# Altium schematic symbol library Analog_DAC.SchLib: 132 symbols (part 1 of 2)
Pins are listed as number, name and electrical type; pins without a type are passive.

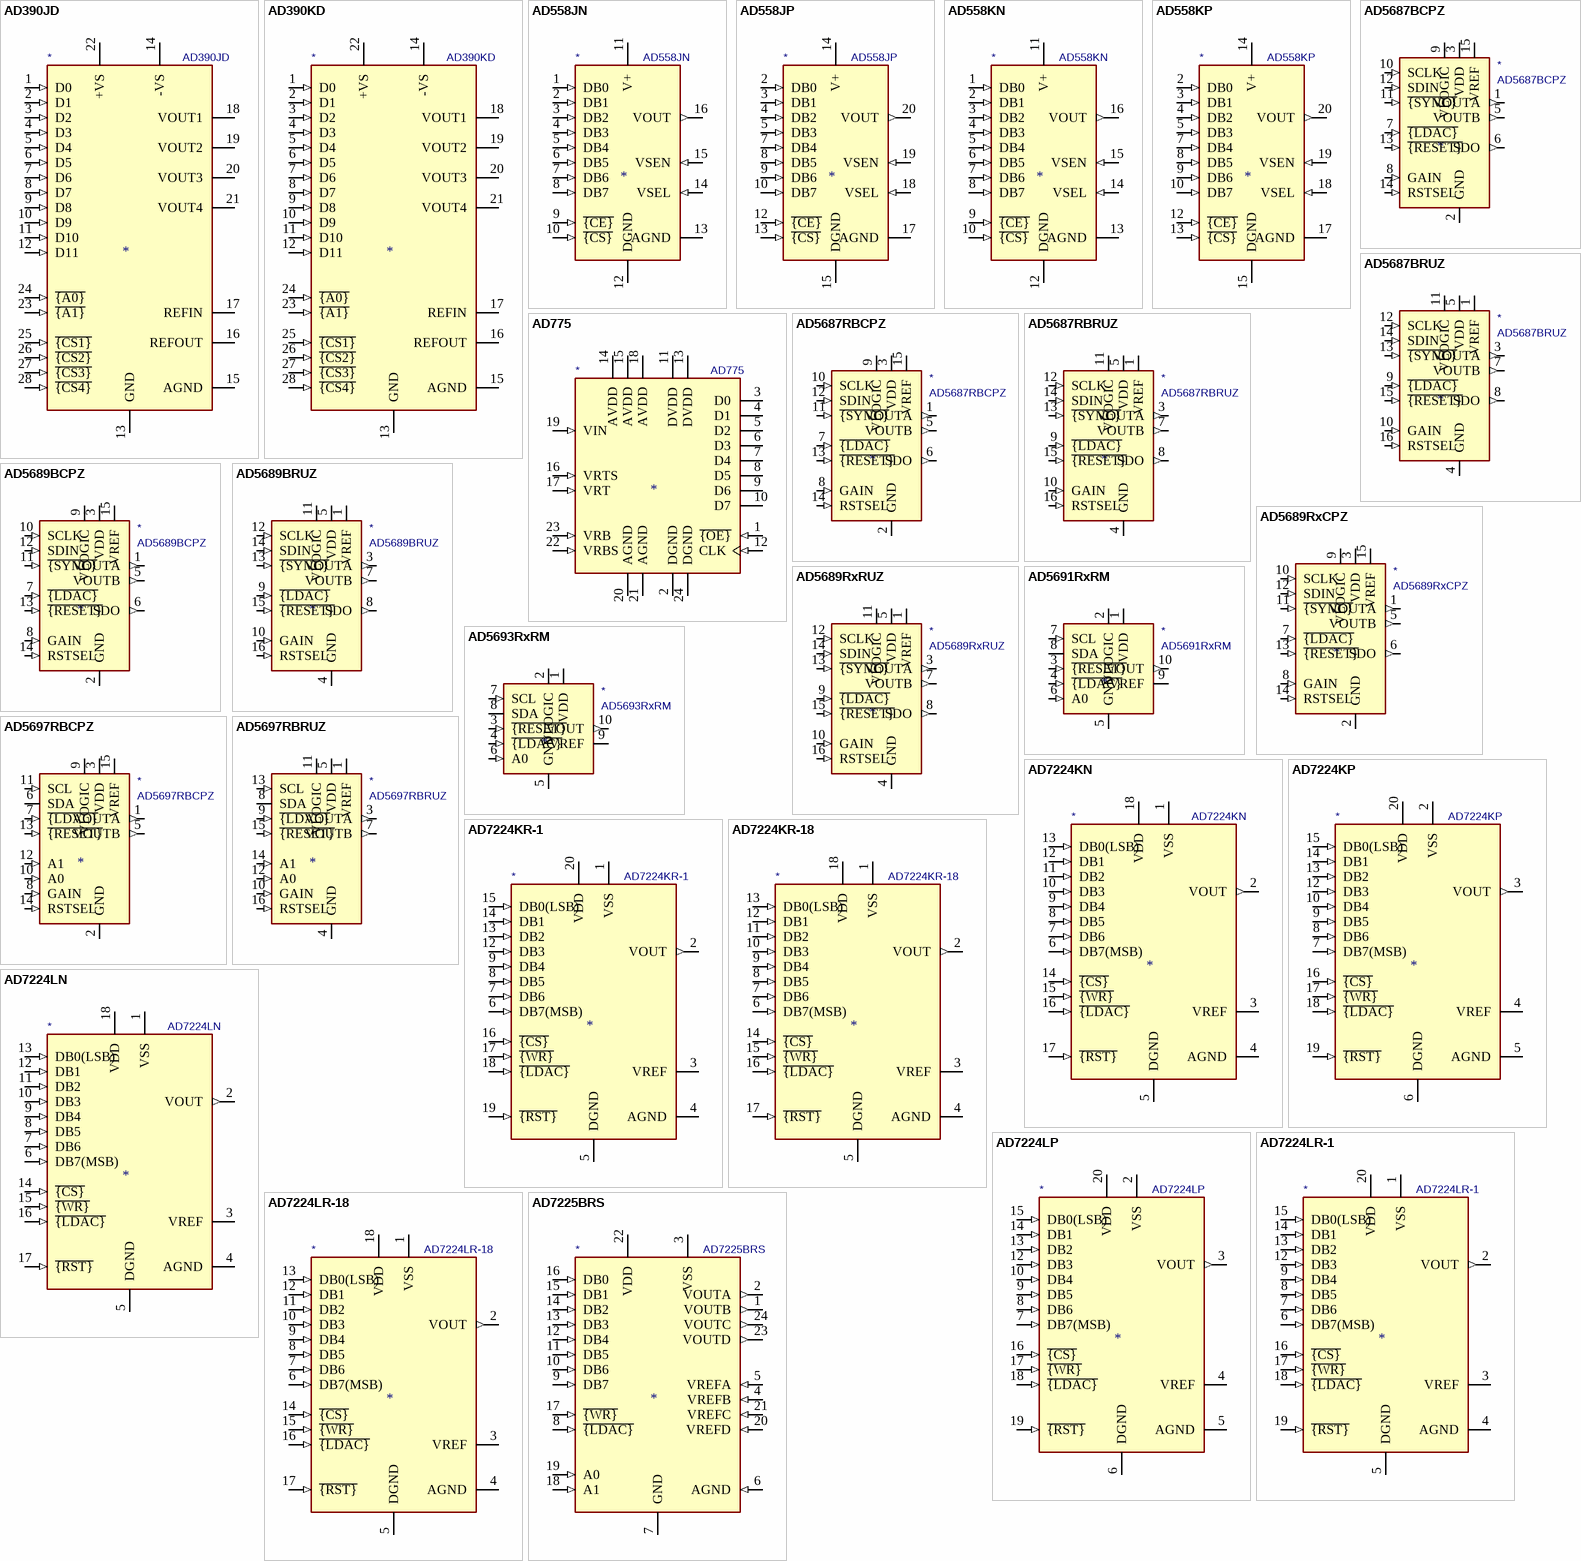
[diagram p0: symbols AD390JD to AD7225BRS]

## AD390JD
designator *  value AD390JD
ki_keywords: 4ch DAC 12bit; ki_description: Quad 12bit DAC, 4LSB Gain Error, DH-28; Supplier: https://www.analog.com/static/imported-files/data_sheets/AD390MIL.pdf
pins: 1 D0 (in), 2 D1 (in), 3 D2 (in), 4 D3 (in), 5 D4 (in), 6 D5 (in), 7 D6 (in), 8 D7 (in), 9 D8 (in), 10 D9 (in), 11 D10 (in), 12 D11 (in), 13 GND (power), 14 -VS (power), 15 AGND, 16 REFOUT, 17 REFIN, 18 VOUT1, 19 VOUT2, 20 VOUT3, 21 VOUT4, 22 +VS (power), 23 ~{{A1}} (in), 24 ~{{A0}} (in), 25 ~{{CS1}} (in), 26 ~{{CS2}} (in), 27 ~{{CS3}} (in), 28 ~{{CS4}} (in)

## AD390KD
designator *  value AD390KD
ki_keywords: 4ch DAC 12bit; ki_description: Quad 12bit DAC, 2LSB Gain Error, DH-28; Supplier: https://www.analog.com/static/imported-files/data_sheets/AD390MIL.pdf
pins: 1 D0 (in), 2 D1 (in), 3 D2 (in), 4 D3 (in), 5 D4 (in), 6 D5 (in), 7 D6 (in), 8 D7 (in), 9 D8 (in), 10 D9 (in), 11 D10 (in), 12 D11 (in), 13 GND (power), 14 -VS (power), 15 AGND, 16 REFOUT, 17 REFIN, 18 VOUT1, 19 VOUT2, 20 VOUT3, 21 VOUT4, 22 +VS (power), 23 ~{{A1}} (in), 24 ~{{A0}} (in), 25 ~{{CS1}} (in), 26 ~{{CS2}} (in), 27 ~{{CS3}} (in), 28 ~{{CS4}} (in)

## AD558JN
designator *  value AD558JN
ki_keywords: 8bit DAC Reference Single Supply; ki_description: Single 8-bit DAC, Internal Reference, Output Amp, Single Supply, DIP-16; ki_fp_filters: DIP* PDIP*; Supplier: https://www.analog.com/static/imported-files/data_sheets/AD558.pdf
pins: 1 DB0 (in), 2 DB1 (in), 3 DB2 (in), 4 DB3 (in), 5 DB4 (in), 6 DB5 (in), 7 DB6 (in), 8 DB7 (in), 9 ~{{CE}} (in), 10 ~{{CS}} (in), 11 V+ (power), 12 DGND (power), 13 AGND (power), 14 VSEL (in), 15 VSEN (in), 16 VOUT (out)

## AD558JP
designator *  value AD558JP
ki_keywords: 8bit DAC Reference Single Supply; ki_description: Single 8-bit DAC, Internal Reference, Output Amp, Single Supply, PLCC-20; Supplier: https://www.analog.com/static/imported-files/data_sheets/AD558.pdf
pins: 2 DB0 (in), 3 DB1 (in), 4 DB2 (in), 5 DB3 (in), 7 DB4 (in), 8 DB5 (in), 9 DB6 (in), 10 DB7 (in), 12 ~{{CE}} (in), 13 ~{{CS}} (in), 14 V+ (power), 15 DGND (power), 17 AGND (power), 18 VSEL (in), 19 VSEN (in), 20 VOUT (out)

## AD558KN
designator *  value AD558KN
ki_keywords: 8bit DAC Reference Single Supply; ki_description: Single 8-bit DAC, Internal Reference, Output Amp, Single Supply, DIP-16; ki_fp_filters: DIP* PDIP*; Supplier: https://www.analog.com/static/imported-files/data_sheets/AD558.pdf
pins: 1 DB0 (in), 2 DB1 (in), 3 DB2 (in), 4 DB3 (in), 5 DB4 (in), 6 DB5 (in), 7 DB6 (in), 8 DB7 (in), 9 ~{{CE}} (in), 10 ~{{CS}} (in), 11 V+ (power), 12 DGND (power), 13 AGND (power), 14 VSEL (in), 15 VSEN (in), 16 VOUT (out)

## AD558KP
designator *  value AD558KP
ki_keywords: 8bit DAC Reference Single Supply; ki_description: Single 8-bit DAC, Internal Reference, Output Amp, Single Supply, PLCC-20; Supplier: https://www.analog.com/static/imported-files/data_sheets/AD558.pdf
pins: 2 DB0 (in), 3 DB1 (in), 4 DB2 (in), 5 DB3 (in), 7 DB4 (in), 8 DB5 (in), 9 DB6 (in), 10 DB7 (in), 12 ~{{CE}} (in), 13 ~{{CS}} (in), 14 V+ (power), 15 DGND (power), 17 AGND (power), 18 VSEL (in), 19 VSEN (in), 20 VOUT (out)

## AD775
designator *  value AD775
ki_keywords: DAC CNA; ki_description: DA Converter 8 bits - 20MHz, PDIP/SOIC-24; Supplier: https://www.analog.com/media/en/technical-documentation/data-sheets/AD775.pdf
pins: 1 ~{{OE}} (in), 2 DGND (power), 3 D0 (hiz), 4 D1 (hiz), 5 D2 (hiz), 6 D3 (hiz), 7 D4 (hiz), 8 D5 (hiz), 9 D6 (hiz), 10 D7 (hiz), 11 DVDD (power), 12 CLK (in), 13 DVDD (power), 14 AVDD (power), 15 AVDD (power), 16 VRTS (in), 17 VRT (in), 18 AVDD (power), 19 VIN (in), 20 AGND (power), 21 AGND (power), 22 VRBS (in), 23 VRB (in), 24 DGND (power)

## AD5687BCPZ
designator *  value AD5687BCPZ
ki_keywords: dac 2nch 12bit spi; ki_description: Dual, 12-Bit nanoDAC+ with SPI Interface, LFCSP-16; ki_fp_filters: LFCSP*3x3mm*P0.5mm*; Footprint: Package_CSP:LFCSP-16-1EP_3x3mm_P0.5mm_EP1.854x1.854mm; Supplier: https://www.analog.com/media/en/technical-documentation/data-sheets/AD5689_5687.pdf
footprint LFCSP-16-1EP_3x3mm_P0.5mm_EP1.854x1.854mm
pins: 1 VOUTA (out), 2 GND (power), 3 VDD (power), 4 NC (in) hidden, 5 VOUTB (out), 6 SDO (out), 7 ~{{LDAC}} (in), 8 GAIN (in), 9 VLOGIC (power), 10 SCLK (in), 11 ~{{SYNC}} (in), 12 SDIN (in), 13 ~{{RESET}} (in), 14 RSTSEL (in), 15 VREF (power), 16 NC (in) hidden, 17 GND hidden

## AD5687BRUZ
designator *  value AD5687BRUZ
ki_keywords: dac 2nch 12bit spi; ki_description: Dual, 12-Bit nanoDAC+ with SPI Interface, TSSOP-16; ki_fp_filters: TSSOP*4.4x5mm*P0.65mm*; Footprint: Package_SO:TSSOP-16_4.4x5mm_P0.65mm; Supplier: https://www.analog.com/media/en/technical-documentation/data-sheets/AD5689_5687.pdf
footprint TSSOP-16_4.4x5mm_P0.65mm
pins: 1 VREF (power), 2 NC (in) hidden, 3 VOUTA (out), 4 GND (power), 5 VDD (power), 6 NC (in) hidden, 7 VOUTB (out), 8 SDO (out), 9 ~{{LDAC}} (in), 10 GAIN (in), 11 VLOGIC (power), 12 SCLK (in), 13 ~{{SYNC}} (in), 14 SDIN (in), 15 ~{{RESET}} (in), 16 RSTSEL (in)

## AD5687RBCPZ
designator *  value AD5687RBCPZ
ki_keywords: dac 2nch 12bit spi; ki_description: Dual, 12-Bit nanoDAC+ with 2 ppm/°C Reference, SPI Interface, LFCSP-16; ki_fp_filters: LFCSP*3x3mm*P0.5mm*; Footprint: Package_CSP:LFCSP-16-1EP_3x3mm_P0.5mm_EP1.854x1.854mm; Supplier: https://www.analog.com/media/en/technical-documentation/data-sheets/AD5689R_5687R.pdf
footprint LFCSP-16-1EP_3x3mm_P0.5mm_EP1.854x1.854mm
pins: 1 VOUTA (out), 2 GND (power), 3 VDD (power), 4 NC (in) hidden, 5 VOUTB (out), 6 SDO (out), 7 ~{{LDAC}} (in), 8 GAIN (in), 9 VLOGIC (power), 10 SCLK (in), 11 ~{{SYNC}} (in), 12 SDIN (in), 13 ~{{RESET}} (in), 14 RSTSEL (in), 15 VREF (power), 16 NC (in) hidden, 17 GND hidden

## AD5687RBRUZ
designator *  value AD5687RBRUZ
ki_keywords: dac 2nch 12bit spi; ki_description: Dual, 12-Bit nanoDAC+ with 2 ppm/°C Reference, SPI Interface, TSSOP-16; ki_fp_filters: TSSOP*4.4x5mm*P0.65mm*; Footprint: Package_SO:TSSOP-16_4.4x5mm_P0.65mm; Supplier: https://www.analog.com/media/en/technical-documentation/data-sheets/AD5689R_5687R.pdf
footprint TSSOP-16_4.4x5mm_P0.65mm
pins: 1 VREF (power), 2 NC (in) hidden, 3 VOUTA (out), 4 GND (power), 5 VDD (power), 6 NC (in) hidden, 7 VOUTB (out), 8 SDO (out), 9 ~{{LDAC}} (in), 10 GAIN (in), 11 VLOGIC (power), 12 SCLK (in), 13 ~{{SYNC}} (in), 14 SDIN (in), 15 ~{{RESET}} (in), 16 RSTSEL (in)

## AD5689BCPZ
designator *  value AD5689BCPZ
ki_keywords: dac 2nch 16bit spi; ki_description: Dual, 16-Bit nanoDAC+ with SPI Interface, LFCSP-16; ki_fp_filters: LFCSP*3x3mm*P0.5mm*; Footprint: Package_CSP:LFCSP-16-1EP_3x3mm_P0.5mm_EP1.854x1.854mm; Supplier: https://www.analog.com/media/en/technical-documentation/data-sheets/AD5689_5687.pdf
footprint LFCSP-16-1EP_3x3mm_P0.5mm_EP1.854x1.854mm
pins: 1 VOUTA (out), 2 GND (power), 3 VDD (power), 4 NC (in) hidden, 5 VOUTB (out), 6 SDO (out), 7 ~{{LDAC}} (in), 8 GAIN (in), 9 VLOGIC (power), 10 SCLK (in), 11 ~{{SYNC}} (in), 12 SDIN (in), 13 ~{{RESET}} (in), 14 RSTSEL (in), 15 VREF (power), 16 NC (in) hidden, 17 GND hidden

## AD5689BRUZ
designator *  value AD5689BRUZ
ki_keywords: dac 2nch 16bit spi; ki_description: Dual, 16-Bit nanoDAC+ with SPI Interface, TSSOP-16; ki_fp_filters: TSSOP*4.4x5mm*P0.65mm*; Footprint: Package_SO:TSSOP-16_4.4x5mm_P0.65mm; Supplier: https://www.analog.com/media/en/technical-documentation/data-sheets/AD5689_5687.pdf
footprint TSSOP-16_4.4x5mm_P0.65mm
pins: 1 VREF (power), 2 NC (in) hidden, 3 VOUTA (out), 4 GND (power), 5 VDD (power), 6 NC (in) hidden, 7 VOUTB (out), 8 SDO (out), 9 ~{{LDAC}} (in), 10 GAIN (in), 11 VLOGIC (power), 12 SCLK (in), 13 ~{{SYNC}} (in), 14 SDIN (in), 15 ~{{RESET}} (in), 16 RSTSEL (in)

## AD5689RxCPZ
designator *  value AD5689RxCPZ
ki_keywords: dac 2nch 16bit spi; ki_description: Dual, 16-Bit nanoDAC+ with 2 ppm/°C Reference, SPI Interface, LFCSP-16; ki_fp_filters: LFCSP*3x3mm*P0.5mm*; Footprint: Package_CSP:LFCSP-16-1EP_3x3mm_P0.5mm_EP1.854x1.854mm; Supplier: https://www.analog.com/media/en/technical-documentation/data-sheets/AD5689R_5687R.pdf
footprint LFCSP-16-1EP_3x3mm_P0.5mm_EP1.854x1.854mm
pins: 1 VOUTA (out), 2 GND (power), 3 VDD (power), 4 NC (in) hidden, 5 VOUTB (out), 6 SDO (out), 7 ~{{LDAC}} (in), 8 GAIN (in), 9 VLOGIC (power), 10 SCLK (in), 11 ~{{SYNC}} (in), 12 SDIN (in), 13 ~{{RESET}} (in), 14 RSTSEL (in), 15 VREF (power), 16 NC (in) hidden, 17 GND hidden

## AD5689RxRUZ
designator *  value AD5689RxRUZ
ki_keywords: dac 2nch 16bit spi; ki_description: Dual, 16-Bit nanoDAC+ with 2 ppm/°C Reference, SPI Interface, TSSOP-16; ki_fp_filters: TSSOP*4.4x5mm*P0.65mm*; Footprint: Package_SO:TSSOP-16_4.4x5mm_P0.65mm; Supplier: https://www.analog.com/media/en/technical-documentation/data-sheets/AD5689R_5687R.pdf
footprint TSSOP-16_4.4x5mm_P0.65mm
pins: 1 VREF (power), 2 NC (in) hidden, 3 VOUTA (out), 4 GND (power), 5 VDD (power), 6 NC (in) hidden, 7 VOUTB (out), 8 SDO (out), 9 ~{{LDAC}} (in), 10 GAIN (in), 11 VLOGIC (power), 12 SCLK (in), 13 ~{{SYNC}} (in), 14 SDIN (in), 15 ~{{RESET}} (in), 16 RSTSEL (in)

## AD5691RxRM
designator *  value AD5691RxRM
ki_keywords: serial DAC i2c digital analog converter; ki_description: Tiny, 12-Bit, I2C, nanoDAC+, 2 ppm/°C Reference, MSOP-10; ki_fp_filters: MSOP*3x3mm*P0.5mm*; Footprint: Package_SO:MSOP-10_3x3mm_P0.5mm; Supplier: https://www.analog.com/media/en/technical-documentation/data-sheets/AD5693R_5692R_5691R_5693.pdf
footprint MSOP-10_3x3mm_P0.5mm
pins: 1 VDD (power), 2 VLOGIC (power), 3 ~{{RESET}} (in), 4 ~{{LDAC}} (in), 5 GND (power), 6 A0 (in), 7 SCL (in), 8 SDA (io), 9 VREF, 10 VOUT (out)

## AD5693RxRM
designator *  value AD5693RxRM
ki_keywords: serial DAC i2c digital analog converter; ki_description: Tiny, 16-Bit, I2C, nanoDAC+, 2 ppm/°C Reference, MSOP-10; ki_fp_filters: MSOP*3x3mm*P0.5mm*; Footprint: Package_SO:MSOP-10_3x3mm_P0.5mm; Supplier: https://www.analog.com/media/en/technical-documentation/data-sheets/AD5693R_5692R_5691R_5693.pdf
footprint MSOP-10_3x3mm_P0.5mm
pins: 1 VDD (power), 2 VLOGIC (power), 3 ~{{RESET}} (in), 4 ~{{LDAC}} (in), 5 GND (power), 6 A0 (in), 7 SCL (in), 8 SDA (io), 9 VREF, 10 VOUT (out)

## AD5697RBCPZ
designator *  value AD5697RBCPZ
ki_keywords: dac 2nch 12bit i2c; ki_description: Dual, 12-Bit nanoDAC+ with 2 ppm/°C Reference, I2C Interface, LFCSP-16; ki_fp_filters: LFCSP*3x3mm*P0.5mm*; Footprint: Package_CSP:LFCSP-16-1EP_3x3mm_P0.5mm_EP1.854x1.854mm; Supplier: https://www.analog.com/media/en/technical-documentation/data-sheets/AD5697R.pdf
footprint LFCSP-16-1EP_3x3mm_P0.5mm_EP1.854x1.854mm
pins: 1 VOUTA (out), 2 GND (power), 3 VDD (power), 4 NC (in) hidden, 5 VOUTB (out), 6 SDA (io), 7 ~{{LDAC}} (in), 8 GAIN (in), 9 VLOGIC (power), 10 A0 (in), 11 SCL (in), 12 A1 (in), 13 ~{{RESET}} (in), 14 RSTSEL (in), 15 VREF (power), 16 NC (in) hidden, 17 GND hidden

## AD5697RBRUZ
designator *  value AD5697RBRUZ
ki_keywords: dac 2nch 12bit i2c; ki_description: Dual, 12-Bit nanoDAC+ with 2 ppm/°C Reference, I2C Interface, TSSOP-16; ki_fp_filters: TSSOP*4.4x5mm*P0.65mm*; Footprint: Package_SO:TSSOP-16_4.4x5mm_P0.65mm; Supplier: https://www.analog.com/media/en/technical-documentation/data-sheets/AD5697R.pdf
footprint TSSOP-16_4.4x5mm_P0.65mm
pins: 1 VREF (power), 2 NC (in) hidden, 3 VOUTA (out), 4 GND (power), 5 VDD (power), 6 NC (in) hidden, 7 VOUTB (out), 8 SDA (io), 9 ~{{LDAC}} (in), 10 GAIN (in), 11 VLOGIC (power), 12 A0 (in), 13 SCL (in), 14 A1 (in), 15 ~{{RESET}} (in), 16 RSTSEL (in)

## AD7224KN
designator *  value AD7224KN
ki_keywords: 8bit DAC Dual Single Supply 1ch; ki_description: 8bit DAC, Dual or Single Supply, DIP-18; ki_fp_filters: DIP* PDIP*; Supplier: https://www.analog.com/static/imported-files/data_sheets/AD7224.pdf
pins: 1 VSS (power), 2 VOUT (out), 3 VREF, 4 AGND, 5 DGND (power), 6 DB7(MSB) (in), 7 DB6 (in), 8 DB5 (in), 9 DB4 (in), 10 DB3 (in), 11 DB2 (in), 12 DB1 (in), 13 DB0(LSB) (in), 14 ~{{CS}} (in), 15 ~{{WR}} (in), 16 ~{{LDAC}} (in), 17 ~{{RST}} (in), 18 VDD (power)

## AD7224KP
designator *  value AD7224KP
ki_keywords: 8bit DAC Dual Single Supply; ki_description: 8bit DAC, Dual or Single Supply, PLCC-20; ki_fp_filters: PLCC*; Supplier: https://www.analog.com/static/imported-files/data_sheets/AD7224.pdf
pins: 2 VSS (power), 3 VOUT (out), 4 VREF, 5 AGND, 6 DGND (power), 7 DB7(MSB) (in), 8 DB6 (in), 9 DB5 (in), 10 DB4 (in), 12 DB3 (in), 13 DB2 (in), 14 DB1 (in), 15 DB0(LSB) (in), 16 ~{{CS}} (in), 17 ~{{WR}} (in), 18 ~{{LDAC}} (in), 19 ~{{RST}} (in), 20 VDD (power)

## AD7224KR-1
designator *  value AD7224KR-1
ki_keywords: 8bit DAC Dual Single Supply; ki_description: 8bit DAC, Dual or Single Supply, SOIC-20; ki_fp_filters: SO*; Supplier: https://www.analog.com/static/imported-files/data_sheets/AD7224.pdf
pins: 1 VSS (power), 2 VOUT (out), 3 VREF, 4 AGND, 5 DGND (power), 6 DB7(MSB) (in), 7 DB6 (in), 8 DB5 (in), 9 DB4 (in), 12 DB3 (in), 13 DB2 (in), 14 DB1 (in), 15 DB0(LSB) (in), 16 ~{{CS}} (in), 17 ~{{WR}} (in), 18 ~{{LDAC}} (in), 19 ~{{RST}} (in), 20 VDD (power)

## AD7224KR-18
designator *  value AD7224KR-18
ki_keywords: 8bit DAC Dual Single Supply; ki_description: 8bit DAC, Dual or Single Supply, SOIC-18; ki_fp_filters: SO*; Supplier: https://www.analog.com/static/imported-files/data_sheets/AD7224.pdf
pins: 1 VSS (power), 2 VOUT (out), 3 VREF, 4 AGND, 5 DGND (power), 6 DB7(MSB) (in), 7 DB6 (in), 8 DB5 (in), 9 DB4 (in), 10 DB3 (in), 11 DB2 (in), 12 DB1 (in), 13 DB0(LSB) (in), 14 ~{{CS}} (in), 15 ~{{WR}} (in), 16 ~{{LDAC}} (in), 17 ~{{RST}} (in), 18 VDD (power)

## AD7224LN
designator *  value AD7224LN
ki_keywords: 8bit DAC Dual Single Supply; ki_description: 8bit DAC, Dual or Single Supply, DIP-18; ki_fp_filters: DIP* PDIP*; Supplier: https://www.analog.com/static/imported-files/data_sheets/AD7224.pdf
pins: 1 VSS (power), 2 VOUT (out), 3 VREF, 4 AGND, 5 DGND (power), 6 DB7(MSB) (in), 7 DB6 (in), 8 DB5 (in), 9 DB4 (in), 10 DB3 (in), 11 DB2 (in), 12 DB1 (in), 13 DB0(LSB) (in), 14 ~{{CS}} (in), 15 ~{{WR}} (in), 16 ~{{LDAC}} (in), 17 ~{{RST}} (in), 18 VDD (power)

## AD7224LP
designator *  value AD7224LP
ki_keywords: 8bit DAC Dual Single Supply; ki_description: 8bit DAC, Dual or Single Supply, PLCC-20; ki_fp_filters: PLCC*; Supplier: https://www.analog.com/static/imported-files/data_sheets/AD7224.pdf
pins: 2 VSS (power), 3 VOUT (out), 4 VREF, 5 AGND, 6 DGND (power), 7 DB7(MSB) (in), 8 DB6 (in), 9 DB5 (in), 10 DB4 (in), 12 DB3 (in), 13 DB2 (in), 14 DB1 (in), 15 DB0(LSB) (in), 16 ~{{CS}} (in), 17 ~{{WR}} (in), 18 ~{{LDAC}} (in), 19 ~{{RST}} (in), 20 VDD (power)

## AD7224LR-1
designator *  value AD7224LR-1
ki_keywords: 8bit DAC Dual Single Supply; ki_description: 8bit DAC, Dual or Single Supply, SOIC-20; ki_fp_filters: SO*; Supplier: https://www.analog.com/static/imported-files/data_sheets/AD7224.pdf
pins: 1 VSS (power), 2 VOUT (out), 3 VREF, 4 AGND, 5 DGND (power), 6 DB7(MSB) (in), 7 DB6 (in), 8 DB5 (in), 9 DB4 (in), 12 DB3 (in), 13 DB2 (in), 14 DB1 (in), 15 DB0(LSB) (in), 16 ~{{CS}} (in), 17 ~{{WR}} (in), 18 ~{{LDAC}} (in), 19 ~{{RST}} (in), 20 VDD (power)

## AD7224LR-18
designator *  value AD7224LR-18
ki_keywords: 8bit DAC Dual Single Supply; ki_description: 8bit DAC, Dual or Single Supply, SOIC-18; ki_fp_filters: SO*; Supplier: https://www.analog.com/static/imported-files/data_sheets/AD7224.pdf
pins: 1 VSS (power), 2 VOUT (out), 3 VREF, 4 AGND, 5 DGND (power), 6 DB7(MSB) (in), 7 DB6 (in), 8 DB5 (in), 9 DB4 (in), 10 DB3 (in), 11 DB2 (in), 12 DB1 (in), 13 DB0(LSB) (in), 14 ~{{CS}} (in), 15 ~{{WR}} (in), 16 ~{{LDAC}} (in), 17 ~{{RST}} (in), 18 VDD (power)

## AD7225BRS
designator *  value AD7225BRS
ki_keywords: 8bit DAC 4CH; ki_description: Quad 8bit DAC, Separate Reference Voltage, SSOP-24; ki_fp_filters: SSOP*; Supplier: https://www.analog.com/static/imported-files/data_sheets/AD7225.pdf
pins: 1 VOUTB (out), 2 VOUTA (out), 3 VSS (power), 4 VREFB (in), 5 VREFA (in), 6 AGND (in), 7 GND (power), 8 ~{{LDAC}} (in), 9 DB7 (in), 10 DB6 (in), 11 DB5 (in), 12 DB4 (in), 13 DB3 (in), 14 DB2 (in), 15 DB1 (in), 16 DB0 (in), 17 ~{{WR}} (in), 18 A1 (in), 19 A0 (in), 20 VREFD (in), 21 VREFC (in), 22 VDD (power), 23 VOUTD (out), 24 VOUTC (out)

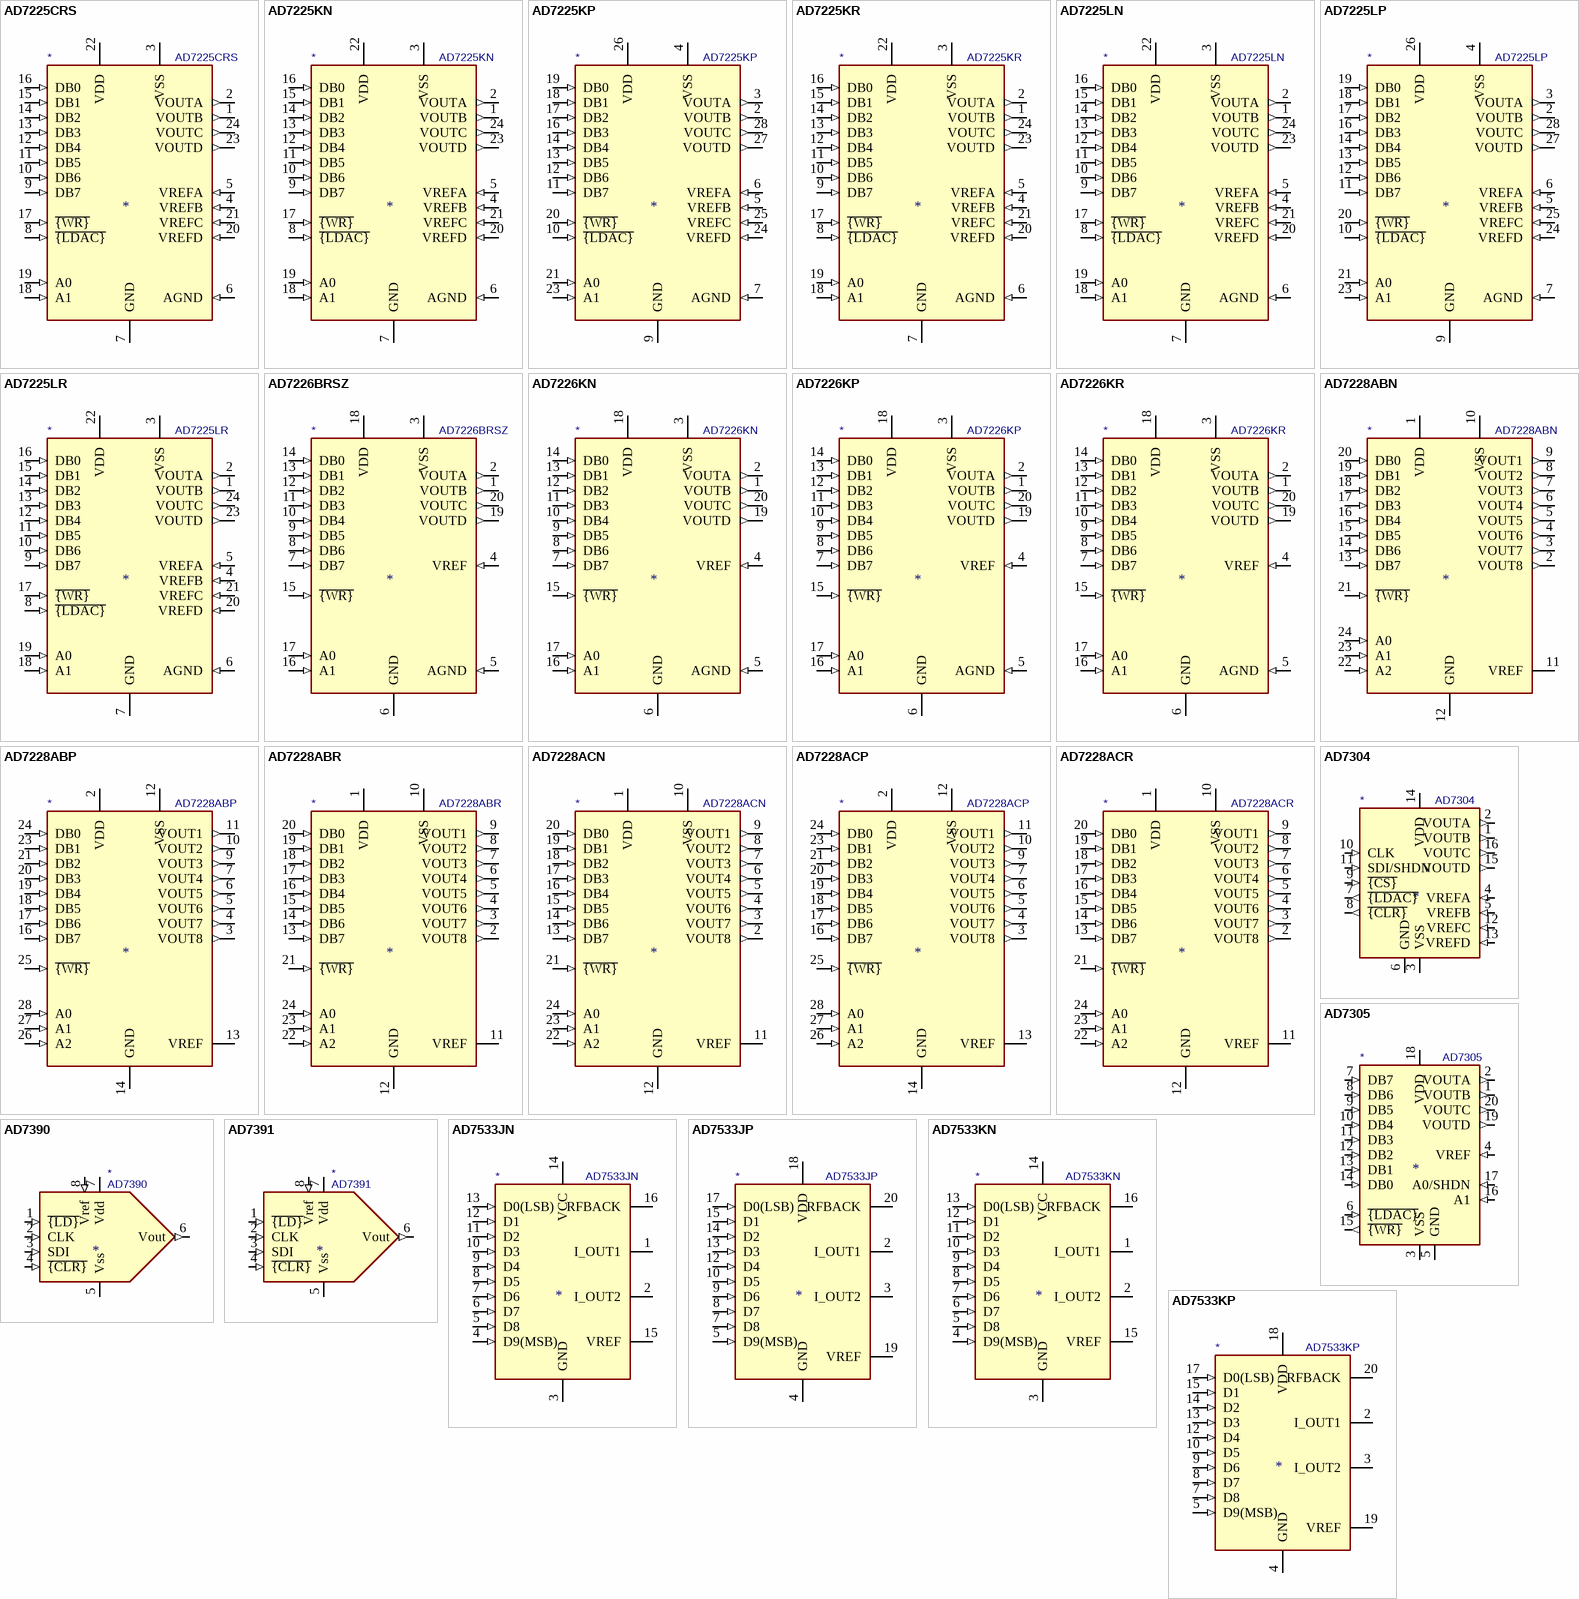
[diagram p1: symbols AD7225CRS to AD7533KP]

## AD7225CRS
designator *  value AD7225CRS
ki_keywords: 8bit DAC 4CH; ki_description: Quad 8bit DAC, Separate Reference Voltage, SSOP-24; ki_fp_filters: SSOP*; Supplier: https://www.analog.com/static/imported-files/data_sheets/AD7225.pdf
pins: 1 VOUTB (out), 2 VOUTA (out), 3 VSS (power), 4 VREFB (in), 5 VREFA (in), 6 AGND (in), 7 GND (power), 8 ~{{LDAC}} (in), 9 DB7 (in), 10 DB6 (in), 11 DB5 (in), 12 DB4 (in), 13 DB3 (in), 14 DB2 (in), 15 DB1 (in), 16 DB0 (in), 17 ~{{WR}} (in), 18 A1 (in), 19 A0 (in), 20 VREFD (in), 21 VREFC (in), 22 VDD (power), 23 VOUTD (out), 24 VOUTC (out)

## AD7225KN
designator *  value AD7225KN
ki_keywords: 8bit DAC 4CH; ki_description: Quad 8bit DAC, Separate Reference Voltage, PDIP-24; ki_fp_filters: DIP* PDIP*; Supplier: https://www.analog.com/static/imported-files/data_sheets/AD7225.pdf
pins: 1 VOUTB (out), 2 VOUTA (out), 3 VSS (power), 4 VREFB (in), 5 VREFA (in), 6 AGND (in), 7 GND (power), 8 ~{{LDAC}} (in), 9 DB7 (in), 10 DB6 (in), 11 DB5 (in), 12 DB4 (in), 13 DB3 (in), 14 DB2 (in), 15 DB1 (in), 16 DB0 (in), 17 ~{{WR}} (in), 18 A1 (in), 19 A0 (in), 20 VREFD (in), 21 VREFC (in), 22 VDD (power), 23 VOUTD (out), 24 VOUTC (out)

## AD7225KP
designator *  value AD7225KP
ki_keywords: 8bit DAC 4CH; ki_description: Quad 8bit DAC, Separate Reference Voltage, PLCC-28; ki_fp_filters: PLCC*; Supplier: https://www.analog.com/static/imported-files/data_sheets/AD7225.pdf
pins: 2 VOUTB (out), 3 VOUTA (out), 4 VSS (power), 5 VREFB (in), 6 VREFA (in), 7 AGND (in), 9 GND (power), 10 ~{{LDAC}} (in), 11 DB7 (in), 12 DB6 (in), 13 DB5 (in), 14 DB4 (in), 16 DB3 (in), 17 DB2 (in), 18 DB1 (in), 19 DB0 (in), 20 ~{{WR}} (in), 21 A0 (in), 23 A1 (in), 24 VREFD (in), 25 VREFC (in), 26 VDD (power), 27 VOUTD (out), 28 VOUTC (out)

## AD7225KR
designator *  value AD7225KR
ki_keywords: 8bit DAC 4CH; ki_description: Quad 8bit DAC, Separate Reference Voltage, SOIC-24; ki_fp_filters: SO*; Supplier: https://www.analog.com/static/imported-files/data_sheets/AD7225.pdf
pins: 1 VOUTB (out), 2 VOUTA (out), 3 VSS (power), 4 VREFB (in), 5 VREFA (in), 6 AGND (in), 7 GND (power), 8 ~{{LDAC}} (in), 9 DB7 (in), 10 DB6 (in), 11 DB5 (in), 12 DB4 (in), 13 DB3 (in), 14 DB2 (in), 15 DB1 (in), 16 DB0 (in), 17 ~{{WR}} (in), 18 A1 (in), 19 A0 (in), 20 VREFD (in), 21 VREFC (in), 22 VDD (power), 23 VOUTD (out), 24 VOUTC (out)

## AD7225LN
designator *  value AD7225LN
ki_keywords: 8bit DAC 4CH; ki_description: Quad 8bit DAC, Separate Reference Voltage, PDIP-24; ki_fp_filters: DIP* PDIP*; Supplier: https://www.analog.com/static/imported-files/data_sheets/AD7225.pdf
pins: 1 VOUTB (out), 2 VOUTA (out), 3 VSS (power), 4 VREFB (in), 5 VREFA (in), 6 AGND (in), 7 GND (power), 8 ~{{LDAC}} (in), 9 DB7 (in), 10 DB6 (in), 11 DB5 (in), 12 DB4 (in), 13 DB3 (in), 14 DB2 (in), 15 DB1 (in), 16 DB0 (in), 17 ~{{WR}} (in), 18 A1 (in), 19 A0 (in), 20 VREFD (in), 21 VREFC (in), 22 VDD (power), 23 VOUTD (out), 24 VOUTC (out)

## AD7225LP
designator *  value AD7225LP
ki_keywords: 8bit DAC 4CH; ki_description: Quad 8bit DAC, Separate Reference Voltage, PLCC-28; ki_fp_filters: PLCC*; Supplier: https://www.analog.com/static/imported-files/data_sheets/AD7225.pdf
pins: 2 VOUTB (out), 3 VOUTA (out), 4 VSS (power), 5 VREFB (in), 6 VREFA (in), 7 AGND (in), 9 GND (power), 10 ~{{LDAC}} (in), 11 DB7 (in), 12 DB6 (in), 13 DB5 (in), 14 DB4 (in), 16 DB3 (in), 17 DB2 (in), 18 DB1 (in), 19 DB0 (in), 20 ~{{WR}} (in), 21 A0 (in), 23 A1 (in), 24 VREFD (in), 25 VREFC (in), 26 VDD (power), 27 VOUTD (out), 28 VOUTC (out)

## AD7225LR
designator *  value AD7225LR
ki_keywords: 8bit DAC 4CH; ki_description: Quad 8bit DAC, Separate Reference Voltage, SO-24; ki_fp_filters: SO*; Supplier: https://www.analog.com/static/imported-files/data_sheets/AD7225.pdf
pins: 1 VOUTB (out), 2 VOUTA (out), 3 VSS (power), 4 VREFB (in), 5 VREFA (in), 6 AGND (in), 7 GND (power), 8 ~{{LDAC}} (in), 9 DB7 (in), 10 DB6 (in), 11 DB5 (in), 12 DB4 (in), 13 DB3 (in), 14 DB2 (in), 15 DB1 (in), 16 DB0 (in), 17 ~{{WR}} (in), 18 A1 (in), 19 A0 (in), 20 VREFD (in), 21 VREFC (in), 22 VDD (power), 23 VOUTD (out), 24 VOUTC (out)

## AD7226BRSZ
designator *  value AD7226BRSZ
ki_keywords: 4CH DAC 8bit; ki_description: Quad 8bit DAC, 4 Channel, Single Reference Voltage, SSOP-20; ki_fp_filters: SSOP*; Supplier: https://www.analog.com/static/imported-files/data_sheets/AD7226.pdf
pins: 1 VOUTB (out), 2 VOUTA (out), 3 VSS (power), 4 VREF (in), 5 AGND (in), 6 GND (power), 7 DB7 (in), 8 DB6 (in), 9 DB5 (in), 10 DB4 (in), 11 DB3 (in), 12 DB2 (in), 13 DB1 (in), 14 DB0 (in), 15 ~{{WR}} (in), 16 A1 (in), 17 A0 (in), 18 VDD (power), 19 VOUTD (out), 20 VOUTC (out)

## AD7226KN
designator *  value AD7226KN
ki_keywords: 4CH DAC 8bit; ki_description: Quad 8bit DAC, 4 Channel, Single Reference Voltage, DIP-20; ki_fp_filters: DIP* PDIP*; Supplier: https://www.analog.com/static/imported-files/data_sheets/AD7226.pdf
pins: 1 VOUTB (out), 2 VOUTA (out), 3 VSS (power), 4 VREF (in), 5 AGND (in), 6 GND (power), 7 DB7 (in), 8 DB6 (in), 9 DB5 (in), 10 DB4 (in), 11 DB3 (in), 12 DB2 (in), 13 DB1 (in), 14 DB0 (in), 15 ~{{WR}} (in), 16 A1 (in), 17 A0 (in), 18 VDD (power), 19 VOUTD (out), 20 VOUTC (out)

## AD7226KP
designator *  value AD7226KP
ki_keywords: 4CH DAC 8bit; ki_description: Quad 8bit DAC, 4 Channel, Single Reference Voltage, PLCC-20; ki_fp_filters: PLCC*; Supplier: https://www.analog.com/static/imported-files/data_sheets/AD7226.pdf
pins: 1 VOUTB (out), 2 VOUTA (out), 3 VSS (power), 4 VREF (in), 5 AGND (in), 6 GND (power), 7 DB7 (in), 8 DB6 (in), 9 DB5 (in), 10 DB4 (in), 11 DB3 (in), 12 DB2 (in), 13 DB1 (in), 14 DB0 (in), 15 ~{{WR}} (in), 16 A1 (in), 17 A0 (in), 18 VDD (power), 19 VOUTD (out), 20 VOUTC (out)

## AD7226KR
designator *  value AD7226KR
ki_keywords: 4CH DAC 8bit; ki_description: Quad 8bit DAC, 4 Channel, Single Reference Voltage, SOIC-20; ki_fp_filters: SSOP*; Supplier: https://www.analog.com/static/imported-files/data_sheets/AD7226.pdf
pins: 1 VOUTB (out), 2 VOUTA (out), 3 VSS (power), 4 VREF (in), 5 AGND (in), 6 GND (power), 7 DB7 (in), 8 DB6 (in), 9 DB5 (in), 10 DB4 (in), 11 DB3 (in), 12 DB2 (in), 13 DB1 (in), 14 DB0 (in), 15 ~{{WR}} (in), 16 A1 (in), 17 A0 (in), 18 VDD (power), 19 VOUTD (out), 20 VOUTC (out)

## AD7228ABN
designator *  value AD7228ABN
ki_keywords: 8bit DAC 8CH; ki_description: 8bit DAC 8 Channel, Single Reference, DIP-24; ki_fp_filters: PDIP* DIP*; Supplier: https://www.analog.com/static/imported-files/data_sheets/AD7228.pdf
pins: 1 VDD (power), 2 VOUT8 (out), 3 VOUT7 (out), 4 VOUT6 (out), 5 VOUT5 (out), 6 VOUT4 (out), 7 VOUT3 (out), 8 VOUT2 (out), 9 VOUT1 (out), 10 VSS (power), 11 VREF, 12 GND (power), 13 DB7 (in), 14 DB6 (in), 15 DB5 (in), 16 DB4 (in), 17 DB3 (in), 18 DB2 (in), 19 DB1 (in), 20 DB0 (in), 21 ~{{WR}} (in), 22 A2 (in), 23 A1 (in), 24 A0 (in)

## AD7228ABP
designator *  value AD7228ABP
ki_keywords: 8bit DAC 8CH; ki_description: 8bit DAC 8 Channel, Single Reference, PLCC-28; ki_fp_filters: PLCC*; Supplier: https://www.analog.com/static/imported-files/data_sheets/AD7228.pdf
pins: 2 VDD (power), 3 VOUT8 (out), 4 VOUT7 (out), 5 VOUT6 (out), 6 VOUT5 (out), 7 VOUT4 (out), 9 VOUT3 (out), 10 VOUT2 (out), 11 VOUT1 (out), 12 VSS (power), 13 VREF, 14 GND (power), 16 DB7 (in), 17 DB6 (in), 18 DB5 (in), 19 DB4 (in), 20 DB3 (in), 21 DB2 (in), 23 DB1 (in), 24 DB0 (in), 25 ~{{WR}} (in), 26 A2 (in), 27 A1 (in), 28 A0 (in)

## AD7228ABR
designator *  value AD7228ABR
ki_keywords: 8bit DAC 8CH; ki_description: 8bit DAC 8 Channel, Single Reference, SOIC-24; ki_fp_filters: SO*; Supplier: https://www.analog.com/static/imported-files/data_sheets/AD7228.pdf
pins: 1 VDD (power), 2 VOUT8 (out), 3 VOUT7 (out), 4 VOUT6 (out), 5 VOUT5 (out), 6 VOUT4 (out), 7 VOUT3 (out), 8 VOUT2 (out), 9 VOUT1 (out), 10 VSS (power), 11 VREF, 12 GND (power), 13 DB7 (in), 14 DB6 (in), 15 DB5 (in), 16 DB4 (in), 17 DB3 (in), 18 DB2 (in), 19 DB1 (in), 20 DB0 (in), 21 ~{{WR}} (in), 22 A2 (in), 23 A1 (in), 24 A0 (in)

## AD7228ACN
designator *  value AD7228ACN
ki_keywords: 8bit DAC 8CH; ki_description: 8bit DAC 8 Channel, Single Reference, DIP-24; ki_fp_filters: PDIP* DIP*; Supplier: https://www.analog.com/static/imported-files/data_sheets/AD7228.pdf
pins: 1 VDD (power), 2 VOUT8 (out), 3 VOUT7 (out), 4 VOUT6 (out), 5 VOUT5 (out), 6 VOUT4 (out), 7 VOUT3 (out), 8 VOUT2 (out), 9 VOUT1 (out), 10 VSS (power), 11 VREF, 12 GND (power), 13 DB7 (in), 14 DB6 (in), 15 DB5 (in), 16 DB4 (in), 17 DB3 (in), 18 DB2 (in), 19 DB1 (in), 20 DB0 (in), 21 ~{{WR}} (in), 22 A2 (in), 23 A1 (in), 24 A0 (in)

## AD7228ACP
designator *  value AD7228ACP
ki_keywords: 8bit DAC 8CH; ki_description: 8bit DAC 8 Channel, Single Reference, PLCC-28; ki_fp_filters: PLCC*; Supplier: https://www.analog.com/static/imported-files/data_sheets/AD7228.pdf
pins: 2 VDD (power), 3 VOUT8 (out), 4 VOUT7 (out), 5 VOUT6 (out), 6 VOUT5 (out), 7 VOUT4 (out), 9 VOUT3 (out), 10 VOUT2 (out), 11 VOUT1 (out), 12 VSS (power), 13 VREF, 14 GND (power), 16 DB7 (in), 17 DB6 (in), 18 DB5 (in), 19 DB4 (in), 20 DB3 (in), 21 DB2 (in), 23 DB1 (in), 24 DB0 (in), 25 ~{{WR}} (in), 26 A2 (in), 27 A1 (in), 28 A0 (in)

## AD7228ACR
designator *  value AD7228ACR
ki_keywords: 8bit DAC 8CH; ki_description: 8bit DAC 8 Channel, Single Reference, SOIC-24; ki_fp_filters: SO*; Supplier: https://www.analog.com/static/imported-files/data_sheets/AD7228.pdf
pins: 1 VDD (power), 2 VOUT8 (out), 3 VOUT7 (out), 4 VOUT6 (out), 5 VOUT5 (out), 6 VOUT4 (out), 7 VOUT3 (out), 8 VOUT2 (out), 9 VOUT1 (out), 10 VSS (power), 11 VREF, 12 GND (power), 13 DB7 (in), 14 DB6 (in), 15 DB5 (in), 16 DB4 (in), 17 DB3 (in), 18 DB2 (in), 19 DB1 (in), 20 DB0 (in), 21 ~{{WR}} (in), 22 A2 (in), 23 A1 (in), 24 A0 (in)

## AD7304
designator *  value AD7304
ki_keywords: dac 4ch 8bit spi; ki_description: 3V/5V, Rail-to-Rail, Quad, 8-Bit DAC, SPI Interface, SOIC-16/TSSOP-16; ki_fp_filters: SOIC*W*7.5x10.3mm*P1.27mm* TSSOP*4.4x5mm*P0.65mm*; Supplier: https://www.analog.com/media/en/technical-documentation/data-sheets/AD7304_7305.pdf
pins: 1 VOUTB (out), 2 VOUTA (out), 3 VSS (power), 4 VREFA (in), 5 VREFB (in), 6 GND (power), 7 ~{{LDAC}} (out), 8 ~{{CLR}} (out), 9 ~{{CS}} (in), 10 CLK (in), 11 SDI/SHDN (in), 12 VREFC (in), 13 VREFD (in), 14 VDD (power), 15 VOUTD (out), 16 VOUTC (out)

## AD7305
designator *  value AD7305
ki_keywords: dac 4ch 8bit parallel; ki_description: 3V/5V, Rail-to-Rail, Quad, 8-Bit DAC, Parallel Interface, SOIC-20/TSSOP-20; ki_fp_filters: SOIC*W*7.5x12.8mm*P1.27mm* TSSOP*4.4x6.5mm*P0.65mm*; Supplier: https://www.analog.com/media/en/technical-documentation/data-sheets/AD7304_7305.pdf
pins: 1 VOUTB (out), 2 VOUTA (out), 3 VSS (power), 4 VREF (in), 5 GND (power), 6 ~{{LDAC}} (in), 7 DB7 (in), 8 DB6 (in), 9 DB5 (in), 10 DB4 (in), 11 DB3 (in), 12 DB2 (in), 13 DB1 (in), 14 DB0 (in), 15 ~{{WR}} (out), 16 A1 (in), 17 A0/SHDN (in), 18 VDD (power), 19 VOUTD (out), 20 VOUTC (out)

## AD7390
designator *  value AD7390
ki_keywords: SPI 12 bit DAC; ki_description: Serial-Input Micropower 12-Bit DAC, DIP-8/SOIC-8/TSSOP-8; ki_fp_filters: DIP*W7.62mm* SOIC*3.9x4.9mm*P1.27mm* TSSOP*4.4x3mm*P0.65mm*; Supplier: https://www.analog.com/media/en/technical-documentation/data-sheets/AD7390_7391.pdf
pins: 1 ~{{LD}} (in), 2 CLK (in), 3 SDI (in), 4 ~{{CLR}} (in), 5 Vss (power), 6 Vout (out), 7 Vdd (power), 8 Vref (in)

## AD7391
designator *  value AD7391
ki_keywords: SPI 10 bit DAC; ki_description: Serial-Input Micropower 10-Bit DAC, DIP-8/SOIC-8/TSSOP-8; ki_fp_filters: DIP*W7.62mm* SOIC*3.9x4.9mm*P1.27mm* TSSOP*4.4x3mm*P0.65mm*; Supplier: https://www.analog.com/media/en/technical-documentation/data-sheets/AD7390_7391.pdf
pins: 1 ~{{LD}} (in), 2 CLK (in), 3 SDI (in), 4 ~{{CLR}} (in), 5 Vss (power), 6 Vout (out), 7 Vdd (power), 8 Vref (in)

## AD7533JN
designator *  value AD7533JN
ki_keywords: 10bit DAC 1CH; ki_description: 10bit Multiplying DAC, 1 Channel, DIP-16; ki_fp_filters: DIP* PDIP*; Supplier: https://www.analog.com/static/imported-files/data_sheets/AD7533.pdf
pins: 1 I_OUT1, 2 I_OUT2, 3 GND (power), 4 D9(MSB) (in), 5 D8 (in), 6 D7 (in), 7 D6 (in), 8 D5 (in), 9 D4 (in), 10 D3 (in), 11 D2 (in), 12 D1 (in), 13 D0(LSB) (in), 14 VCC (power), 15 VREF, 16 RFBACK

## AD7533JP
designator *  value AD7533JP
ki_keywords: 10bit DAC 1CH; ki_description: 10bit Multiplying DAC, 1 Channel, PLCC-20; ki_fp_filters: PLCC*; Supplier: https://www.analog.com/static/imported-files/data_sheets/AD7533.pdf
pins: 2 I_OUT1, 3 I_OUT2, 4 GND (power), 5 D9(MSB) (in), 7 D8 (in), 8 D7 (in), 9 D6 (in), 10 D5 (in), 12 D4 (in), 13 D3 (in), 14 D2 (in), 15 D1 (in), 17 D0(LSB) (in), 18 VDD (power), 19 VREF, 20 RFBACK

## AD7533KN
designator *  value AD7533KN
ki_keywords: 10bit DAC 1CH; ki_description: 10bit Multiplying DAC, 1 Channel, DIP-16; ki_fp_filters: DIP* PDIP*; Supplier: https://www.analog.com/static/imported-files/data_sheets/AD7533.pdf
pins: 1 I_OUT1, 2 I_OUT2, 3 GND (power), 4 D9(MSB) (in), 5 D8 (in), 6 D7 (in), 7 D6 (in), 8 D5 (in), 9 D4 (in), 10 D3 (in), 11 D2 (in), 12 D1 (in), 13 D0(LSB) (in), 14 VCC (power), 15 VREF, 16 RFBACK

## AD7533KP
designator *  value AD7533KP
ki_keywords: 10bit DAC 1CH; ki_description: 10bit Multiplying DAC, 1 Channel, PLCC-20; ki_fp_filters: PLCC*; Supplier: https://www.analog.com/static/imported-files/data_sheets/AD7533.pdf
pins: 2 I_OUT1, 3 I_OUT2, 4 GND (power), 5 D9(MSB) (in), 7 D8 (in), 8 D7 (in), 9 D6 (in), 10 D5 (in), 12 D4 (in), 13 D3 (in), 14 D2 (in), 15 D1 (in), 17 D0(LSB) (in), 18 VDD (power), 19 VREF, 20 RFBACK

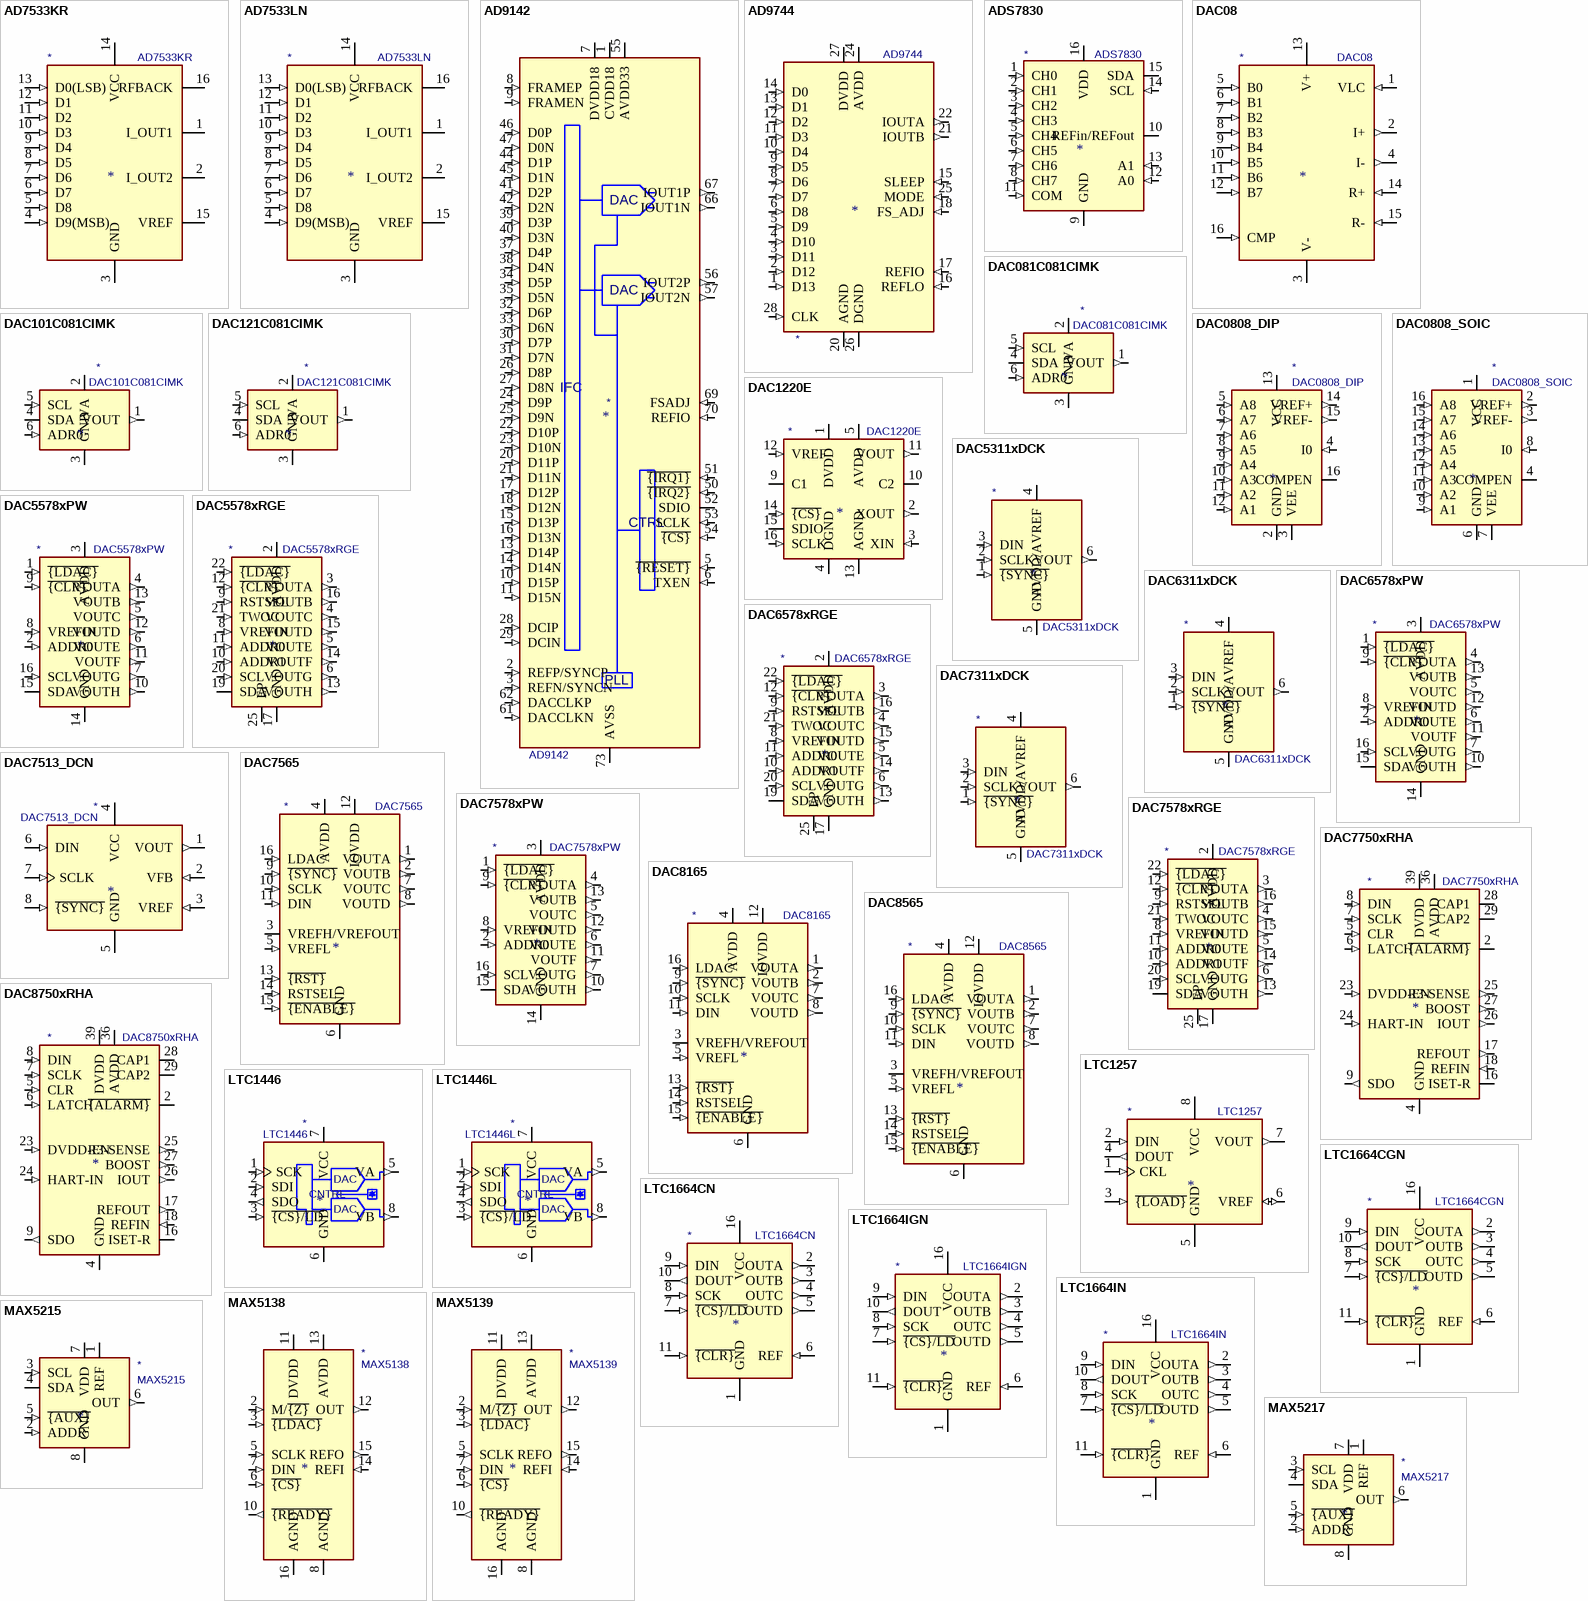
[diagram p2: symbols AD7533KR to MAX5217]

## AD7533KR
designator *  value AD7533KR
ki_keywords: 10bit DAC 1CH; ki_description: 10bit Multiplying DAC, 1 Channel, SOIC-16; ki_fp_filters: DIP* PDIP*; Supplier: https://www.analog.com/static/imported-files/data_sheets/AD7533.pdf
pins: 1 I_OUT1, 2 I_OUT2, 3 GND (power), 4 D9(MSB) (in), 5 D8 (in), 6 D7 (in), 7 D6 (in), 8 D5 (in), 9 D4 (in), 10 D3 (in), 11 D2 (in), 12 D1 (in), 13 D0(LSB) (in), 14 VCC (power), 15 VREF, 16 RFBACK

## AD7533LN
designator *  value AD7533LN
ki_keywords: 10bit DAC 1CH; ki_description: 10bit Multiplying DAC, 1 Channel, DIP-16; ki_fp_filters: DIP* PDIP*; Supplier: https://www.analog.com/static/imported-files/data_sheets/AD7533.pdf
pins: 1 I_OUT1, 2 I_OUT2, 3 GND (power), 4 D9(MSB) (in), 5 D8 (in), 6 D7 (in), 7 D6 (in), 8 D5 (in), 9 D4 (in), 10 D3 (in), 11 D2 (in), 12 D1 (in), 13 D0(LSB) (in), 14 VCC (power), 15 VREF, 16 RFBACK

## AD9142
designator *  value AD9142
ki_keywords: 16bit DAC 2CH; ki_description: 1.6GSPS 16bit dual-channel DAC, LFCSP-72; ki_fp_filters: LFCSP*1EP*10x10mm*P0.5mm*EP6.15x6.15mm*; Footprint: Package_CSP:LFCSP-72-1EP_10x10mm_P0.5mm_EP6.15x6.15mm; Supplier: https://www.analog.com/media/en/technical-documentation/data-sheets/AD9142.pdf
footprint LFCSP-72-1EP_10x10mm_P0.5mm_EP6.15x6.15mm
pins: 1 CVDD18 (power), 2 REFP/SYNCP (in), 3 REFN/SYNCN (in), 4 CVDD18 hidden, 5 ~{{RESET}} (in), 6 TXEN (in), 7 DVDD18 (power), 8 FRAMEP (in), 9 FRAMEN (in), 10 D15P (in), 11 D15N (in), 12 DVDD18 hidden, 13 D14P (in), 14 D14N (in), 15 D13P (in), 16 D13N (in), 17 D12P (in), 18 D12N (in), 19 DVDD18 hidden, 20 D11P (in), 21 D11N (in), 22 D10P (in), 23 D10N (in), 24 D9P (in), 25 D9N (in), 26 D8P (in), 27 D8N (in), 28 DCIP (in), 29 DCIN (in), 30 D7P (in), 31 D7N (in), 32 D6P (in), 33 D6N (in), 34 D5P (in), 35 D5N (in), 36 DVDD18 hidden, 37 D4P (in), 38 D4N (in), 39 D3P (in), 40 D3N (in), 41 D2P (in), 42 D2N (in), 43 DVDD18 hidden, 44 D1P (in), 45 D1N (in), 46 D0P (in), 47 D0N (in), 48 DVDD18 hidden, 49 DVDD18 hidden, 50 ~{{IRQ2}} (in), 51 ~{{IRQ1}} (in), 52 SDIO (io), 53 SCLK (in), 54 ~{{CS}} (in), 55 AVDD33 (power), 56 IOUT2P (out), 57 IOUT2N (out), 58 AVDD33 hidden, 59 CVDD18 hidden, 60 CVDD18 hidden, 61 DACCLKN (in), 62 DACCLKP (in), 63 CVDD18 hidden, 64 CVDD18 hidden, 65 AVDD33 hidden, 66 IOUT1N (out), 67 IOUT1P (out), 68 AVDD33 hidden, 69 FSADJ (in), 70 REFIO (in), 71 CVDD18 hidden, 72 CVDD18 hidden, 73 AVSS (power)
text: DAC; IFC; CTRL; PLL

## AD9744
designator *  value AD9744
ki_keywords: 14bit DAC 1CH; ki_description: 210MSPS 14bit DAC, TSSOP-28; ki_fp_filters: TSSOP*4.4x9.7mm*P0.65mm*; Footprint: Package_SO:TSSOP-28_4.4x9.7mm_P0.65mm; Supplier: https://www.analog.com/media/en/technical-documentation/data-sheets/AD9744.pdf
footprint TSSOP-28_4.4x9.7mm_P0.65mm
pins: 1 D13 (in), 2 D12 (in), 3 D11 (in), 4 D10 (in), 5 D9 (in), 6 D8 (in), 7 D7 (in), 8 D6 (in), 9 D5 (in), 10 D4 (in), 11 D3 (in), 12 D2 (in), 13 D1 (in), 14 D0 (in), 15 SLEEP (in), 16 REFLO (in), 17 REFIO (in), 18 FS_ADJ (in), 20 AGND (power), 21 IOUTB (out), 22 IOUTA (out), 24 AVDD (power), 25 MODE (in), 26 DGND (power), 27 DVDD (power), 28 CLK (in)

## ADS7830
designator *  value ADS7830
ki_keywords: 8bit DAC 8CH; ki_description: Single-supply, 8bit, 8 ch, SAR, 70kHz SR, 2.7 - 5 VDD, I2C, TSSOP-16; ki_fp_filters: TSSOP*4.4x5mm*P0.65mm*; Footprint: Package_SO:TSSOP-16_4.4x5mm_P0.65mm; Supplier: http://www.ti.com/lit/ds/symlink/ads7830.pdf
footprint TSSOP-16_4.4x5mm_P0.65mm
pins: 1 CH0 (in), 2 CH1 (in), 3 CH2 (in), 4 CH3 (in), 5 CH4 (in), 6 CH5 (in), 7 CH6 (in), 8 CH7 (in), 9 GND (power), 10 REFin/REFout (io), 11 COM (in), 12 A0 (in), 13 A1 (in), 14 SCL (in), 15 SDA (io), 16 VDD (power)

## DAC08
designator *  value DAC08
ki_keywords: DAC CNA; ki_description: DA Converter 8 bits; Supplier: https://www.analog.com/media/en/technical-documentation/data-sheets/DAC08.pdf
pins: 1 VLC (in), 2 I+ (out), 3 V- (power), 4 I- (out), 5 B0 (in), 6 B1 (in), 7 B2 (in), 8 B3 (in), 9 B4 (in), 10 B5 (in), 11 B6 (in), 12 B7 (in), 13 V+ (power), 14 R+ (in), 15 R- (in), 16 CMP (in)

## DAC081C081CIMK
designator *  value DAC081C081CIMK
ki_keywords: I2C DAC 8-bit; ki_description: 8-bit Micropower DAC with I2C-Compatible Interface, SOT-23-6; ki_fp_filters: SOT?23*; Footprint: Package_TO_SOT_SMD:SOT-23-6; Supplier: http://www.ti.com/lit/ds/symlink/dac081c081.pdf
footprint SOT-23-6
pins: 1 VOUT (out), 2 VA (power), 3 GND (power), 4 SDA (io), 5 SCL (in), 6 ADR0 (in)

## DAC101C081CIMK
designator *  value DAC101C081CIMK
ki_keywords: I2C DAC 10-bit; ki_description: 10-bit Micropower DAC with I2C-Compatible Interface, SOT-23-6; ki_fp_filters: SOT?23*; Footprint: Package_TO_SOT_SMD:SOT-23-6; Supplier: http://www.ti.com/lit/ds/symlink/dac101c081.pdf
footprint SOT-23-6
pins: 1 VOUT (out), 2 VA (power), 3 GND (power), 4 SDA (io), 5 SCL (in), 6 ADR0 (in)

## DAC121C081CIMK
designator *  value DAC121C081CIMK
ki_keywords: I2C DAC 12-bit; ki_description: 12-bit Micropower DAC with I2C-Compatible Interface, SOT-23-6; ki_fp_filters: SOT?23*; Footprint: Package_TO_SOT_SMD:SOT-23-6; Supplier: http://www.ti.com/lit/ds/symlink/dac121c081.pdf
footprint SOT-23-6
pins: 1 VOUT (out), 2 VA (power), 3 GND (power), 4 SDA (io), 5 SCL (in), 6 ADR0 (in)

## DAC0808_DIP
designator *  value DAC0808_DIP
ki_keywords: 8 bit multiplying DAC; ki_description: 8-bit multiplying DAC; ki_fp_filters: DIP*W7.62mm*; Footprint: Package_DIP:DIP-16_W7.62mm; Supplier: http://www.ti.com/lit/ds/symlink/dac0808.pdf
footprint DIP-16_W7.62mm
pins: 1 NC (in) hidden, 2 GND (power), 3 VEE (power), 4 I0 (in), 5 A8 (in), 6 A7 (in), 7 A6 (in), 8 A5 (in), 9 A4 (in), 10 A3 (in), 11 A2 (in), 12 A1 (in), 13 VCC (power), 14 VREF+ (out), 15 VREF- (out), 16 COMPEN

## DAC0808_SOIC
designator *  value DAC0808_SOIC
ki_keywords: 8 bit multiplying DAC; ki_description: 8-bit multiplying DAC; ki_fp_filters: SOIC*3.9x9.9mm*P1.27mm*; Footprint: Package_SO:SOIC-16_3.9x9.9mm_P1.27mm; Supplier: http://www.ti.com/lit/ds/symlink/dac0808.pdf
footprint SOIC-16_3.9x9.9mm_P1.27mm
pins: 1 VCC (power), 2 VREF+ (out), 3 VREF- (out), 4 COMPEN, 5 NC (in) hidden, 6 GND (power), 7 VEE (power), 8 I0 (in), 9 A1 (in), 10 A2 (in), 11 A3 (in), 12 A4 (in), 13 A5 (in), 14 A6 (in), 15 A7 (in), 16 A8 (in)

## DAC1220E
designator *  value DAC1220E
ki_keywords: DAC; ki_description: 20-Bit , Low-Power Digital-to-Analog Converter, SSOP-16; ki_fp_filters: SSOP*3.9x4.9mm*P0.635mm*; Footprint: Package_SO:SSOP-16_3.9x4.9mm_P0.635mm; Supplier: https://www.ti.com/lit/ds/symlink/dac1220.pdf
footprint SSOP-16_3.9x4.9mm_P0.635mm
pins: 1 DVDD (power), 2 XOUT (out), 3 XIN (in), 4 DGND (power), 5 AVDD (power), 6 DNC (in) hidden, 7 DNC (in) hidden, 8 DNC (in) hidden, 9 C1, 10 C2, 11 VOUT (out), 12 VREF (in), 13 AGND (power), 14 ~{{CS}} (in), 15 SDIO (io), 16 SCLK (in)

## DAC5311xDCK
designator *  value DAC5311xDCK
ki_keywords: DAC SPI 1-channel; ki_description: 8-Bit, Single-Channel, Voltage Output, Serial Interface Digital-to-Analog Converters, SC-70; ki_fp_filters: SOT?363*; Footprint: Package_TO_SOT_SMD:SOT-363_SC-70-6; Supplier: https://www.ti.com/lit/ds/symlink/dac5311.pdf
footprint SOT-363_SC-70-6
pins: 1 ~{{SYNC}} (in), 2 SCLK (in), 3 DIN (in), 4 AVDD/AVREF (power), 5 GND (power), 6 VOUT (out)

## DAC5578xPW
designator *  value DAC5578xPW
ki_keywords: DAC I2C TWI 8-channel; ki_description: 8-Bit, Octal-Channel, Ultra-Low Glitch, Voltage Output, Two-Wire Interface Digital-to-Analog Converters, TSSOP-16; ki_fp_filters: TSSOP*4.4x5mm*P0.65mm*; Footprint: Package_SO:TSSOP-16_4.4x5mm_P0.65mm; Supplier: http://www.ti.com/lit/ds/symlink/dac5578.pdf
footprint TSSOP-16_4.4x5mm_P0.65mm
pins: 1 ~{{LDAC}} (in), 2 ADDR0 (in), 3 AVDD (power), 4 VOUTA (out), 5 VOUTC (out), 6 VOUTE (out), 7 VOUTG (out), 8 VREFIN (in), 9 ~{{CLR}} (in), 10 VOUTH (out), 11 VOUTF (out), 12 VOUTD (out), 13 VOUTB (out), 14 GND (power), 15 SDA (io), 16 SCL (in)

## DAC5578xRGE
designator *  value DAC5578xRGE
ki_keywords: DAC I2C TWI 8-channel; ki_description: 8-Bit, Octal-Channel, Ultra-Low Glitch, Voltage Output, Two-Wire Interface Digital-to-Analog Converters, QFN-24; ki_fp_filters: QFN*1EP*4x4mm*P0.5mm*; Footprint: Package_DFN_QFN:QFN-24-1EP_4x4mm_P0.5mm_EP2.7x2.7mm; Supplier: http://www.ti.com/lit/ds/symlink/dac5578.pdf
footprint QFN-24-1EP_4x4mm_P0.5mm_EP2.7x2.7mm
pins: 1 NC (in) hidden, 2 AVDD (power), 3 VOUTA (out), 4 VOUTC (out), 5 VOUTE (out), 6 VOUTG (out), 7 NC (in) hidden, 8 VREFIN (in), 9 RSTSEL (in), 10 ADDR1 (in), 11 ADDR0 (in), 12 ~{{CLR}} (in), 13 VOUTH (out), 14 VOUTF (out), 15 VOUTD (out), 16 VOUTB (out), 17 GND (power), 18 NC (in) hidden, 19 SDA (io), 20 SCL (in), 21 TWOC (in), 22 ~{{LDAC}} (in), 23 NC (in) hidden, 24 NC (in) hidden, 25 EP

## DAC6311xDCK
designator *  value DAC6311xDCK
ki_keywords: DAC SPI 1-channel; ki_description: 10-Bit, Single-Channel, Voltage Output, Serial Interface Digital-to-Analog Converters, SC-70; ki_fp_filters: SOT?363*; Footprint: Package_TO_SOT_SMD:SOT-363_SC-70-6; Supplier: https://www.ti.com/lit/ds/symlink/dac5311.pdf
footprint SOT-363_SC-70-6
pins: 1 ~{{SYNC}} (in), 2 SCLK (in), 3 DIN (in), 4 AVDD/AVREF (power), 5 GND (power), 6 VOUT (out)

## DAC6578xPW
designator *  value DAC6578xPW
ki_keywords: DAC I2C TWI 8-channel; ki_description: 10-Bit, Octal-Channel, Ultra-Low Glitch, Voltage Output, Two-Wire Interface Digital-to-Analog Converters, TSSOP-16; ki_fp_filters: TSSOP*4.4x5mm*P0.65mm*; Footprint: Package_SO:TSSOP-16_4.4x5mm_P0.65mm; Supplier: http://www.ti.com/lit/ds/symlink/dac5578.pdf
footprint TSSOP-16_4.4x5mm_P0.65mm
pins: 1 ~{{LDAC}} (in), 2 ADDR0 (in), 3 AVDD (power), 4 VOUTA (out), 5 VOUTC (out), 6 VOUTE (out), 7 VOUTG (out), 8 VREFIN (in), 9 ~{{CLR}} (in), 10 VOUTH (out), 11 VOUTF (out), 12 VOUTD (out), 13 VOUTB (out), 14 GND (power), 15 SDA (io), 16 SCL (in)

## DAC6578xRGE
designator *  value DAC6578xRGE
ki_keywords: DAC I2C TWI 8-channel; ki_description: 10-Bit, Octal-Channel, Ultra-Low Glitch, Voltage Output, Two-Wire Interface Digital-to-Analog Converters, QFN-24; ki_fp_filters: QFN*1EP*4x4mm*P0.5mm*; Footprint: Package_DFN_QFN:QFN-24-1EP_4x4mm_P0.5mm_EP2.7x2.7mm; Supplier: http://www.ti.com/lit/ds/symlink/dac5578.pdf
footprint QFN-24-1EP_4x4mm_P0.5mm_EP2.7x2.7mm
pins: 1 NC (in) hidden, 2 AVDD (power), 3 VOUTA (out), 4 VOUTC (out), 5 VOUTE (out), 6 VOUTG (out), 7 NC (in) hidden, 8 VREFIN (in), 9 RSTSEL (in), 10 ADDR1 (in), 11 ADDR0 (in), 12 ~{{CLR}} (in), 13 VOUTH (out), 14 VOUTF (out), 15 VOUTD (out), 16 VOUTB (out), 17 GND (power), 18 NC (in) hidden, 19 SDA (io), 20 SCL (in), 21 TWOC (in), 22 ~{{LDAC}} (in), 23 NC (in) hidden, 24 NC (in) hidden, 25 EP

## DAC7311xDCK
designator *  value DAC7311xDCK
ki_keywords: DAC SPI 1-channel; ki_description: 12-Bit, Single-Channel, Voltage Output, Serial Interface Digital-to-Analog Converters, SC-70; ki_fp_filters: SOT?363*; Footprint: Package_TO_SOT_SMD:SOT-363_SC-70-6; Supplier: https://www.ti.com/lit/ds/symlink/dac5311.pdf
footprint SOT-363_SC-70-6
pins: 1 ~{{SYNC}} (in), 2 SCLK (in), 3 DIN (in), 4 AVDD/AVREF (power), 5 GND (power), 6 VOUT (out)

## DAC7513_DCN
designator *  value DAC7513_DCN
ki_keywords: TI DAC 12 bit; ki_description: Low-Power, Rail-to-Rail Output, 12-Bit Serial Input DAC; ki_fp_filters: SOT?23*; Footprint: Package_TO_SOT_SMD:SOT-23-8; Supplier: http://www.ti.com.cn/cn/lit/ds/symlink/dac7513.pdf
footprint SOT-23-8
pins: 1 VOUT (out), 2 VFB (in), 3 VREF (in), 4 VCC (power), 5 GND (power), 6 DIN (in), 7 SCLK (in), 8 ~{{SYNC}} (in)

## DAC7565
designator *  value DAC7565
ki_keywords: 12-bit quad DAC voltage reference; ki_description: 12-bit quad-channel voltage output DAC with 2.5V internal reference; ki_fp_filters: TSSOP*4.4x5mm*P0.65mm*; Footprint: Package_SO:TSSOP-16_4.4x5mm_P0.65mm; Supplier: https://www.ti.com/lit/ds/symlink/dac7565.pdf
footprint TSSOP-16_4.4x5mm_P0.65mm
pins: 1 VOUTA (out), 2 VOUTB (out), 3 VREFH/VREFOUT (io), 4 AVDD (power), 5 VREFL (in), 6 GND (power), 7 VOUTC (out), 8 VOUTD (out), 9 ~{{SYNC}} (in), 10 SCLK (in), 11 DIN (in), 12 IOVDD (power), 13 ~{{RST}} (in), 14 RSTSEL (in), 15 ~{{ENABLE}} (in), 16 LDAC (in)

## DAC7578xPW
designator *  value DAC7578xPW
ki_keywords: DAC I2C TWI 8-channel; ki_description: 12-Bit, Octal-Channel, Ultra-Low Glitch, Voltage Output, Two-Wire Interface Digital-to-Analog Converters, TSSOP-16; ki_fp_filters: TSSOP*4.4x5mm*P0.65mm*; Footprint: Package_SO:TSSOP-16_4.4x5mm_P0.65mm; Supplier: http://www.ti.com/lit/ds/symlink/dac5578.pdf
footprint TSSOP-16_4.4x5mm_P0.65mm
pins: 1 ~{{LDAC}} (in), 2 ADDR0 (in), 3 AVDD (power), 4 VOUTA (out), 5 VOUTC (out), 6 VOUTE (out), 7 VOUTG (out), 8 VREFIN (in), 9 ~{{CLR}} (in), 10 VOUTH (out), 11 VOUTF (out), 12 VOUTD (out), 13 VOUTB (out), 14 GND (power), 15 SDA (io), 16 SCL (in)

## DAC7578xRGE
designator *  value DAC7578xRGE
ki_keywords: DAC I2C TWI 8-channel; ki_description: 12-Bit, Octal-Channel, Ultra-Low Glitch, Voltage Output, Two-Wire Interface Digital-to-Analog Converters, QFN-24; ki_fp_filters: QFN*1EP*4x4mm*P0.5mm*; Footprint: Package_DFN_QFN:QFN-24-1EP_4x4mm_P0.5mm_EP2.7x2.7mm; Supplier: http://www.ti.com/lit/ds/symlink/dac5578.pdf
footprint QFN-24-1EP_4x4mm_P0.5mm_EP2.7x2.7mm
pins: 1 NC (in) hidden, 2 AVDD (power), 3 VOUTA (out), 4 VOUTC (out), 5 VOUTE (out), 6 VOUTG (out), 7 NC (in) hidden, 8 VREFIN (in), 9 RSTSEL (in), 10 ADDR1 (in), 11 ADDR0 (in), 12 ~{{CLR}} (in), 13 VOUTH (out), 14 VOUTF (out), 15 VOUTD (out), 16 VOUTB (out), 17 GND (power), 18 NC (in) hidden, 19 SDA (io), 20 SCL (in), 21 TWOC (in), 22 ~{{LDAC}} (in), 23 NC (in) hidden, 24 NC (in) hidden, 25 EP

## DAC7750xRHA
designator *  value DAC7750xRHA
ki_keywords: DAC Current Loop 20mA; ki_description: Single-Channel, 12bit Programmable Current Output DAC for 4-mA to 20-mA Current Loop Applications, VQFN-40; ki_fp_filters: Texas*PVQFN*; Footprint: Package_DFN_QFN:Texas_S-PVQFN-N40_EP4.6x4.6mm_ThermalVias; Supplier: http://www.ti.com/lit/ds/symlink/dac7750.pdf
footprint Texas_S-PVQFN-N40_EP4.6x4.6mm_ThermalVias
pins: 1 NC (in) hidden, 2 ~{{ALARM}} (oc), 3 GND hidden, 4 GND (power), 5 CLR (in), 6 LATCH (in), 7 SCLK (in), 8 DIN (in), 9 SDO (out), 10 NC (in) hidden, 11 NC (in) hidden, 12 GND hidden, 13 GND hidden, 14 GND hidden, 15 GND hidden, 16 ISET-R, 17 REFOUT (out), 18 REFIN (in), 19 NC (in) hidden, 20 NC (in) hidden, 21 NC (in) hidden, 22 NC (in) hidden, 23 DVDD-EN (in), 24 HART-IN (in), 25 R3-SENSE (out), 26 IOUT (out), 27 BOOST (out), 28 CAP1, 29 CAP2, 30 NC (in) hidden, 31 NC (in) hidden, 32 NC (in) hidden, 33 NC (in) hidden, 34 NC (in) hidden, 35 NC (in) hidden, 36 AVDD (power), 37 GND hidden, 38 NC (in) hidden, 39 DVDD (power), 40 NC (in) hidden, 41 GND hidden

## DAC8165
designator *  value DAC8165
ki_keywords: 14-bit quad DAC voltage reference; ki_description: 14-bit quad-channel voltage output DAC with 2.5V internal reference; ki_fp_filters: TSSOP*4.4x5mm*P0.65mm*; Footprint: Package_SO:TSSOP-16_4.4x5mm_P0.65mm; Supplier: https://www.ti.com/lit/ds/symlink/dac8165.pdf
footprint TSSOP-16_4.4x5mm_P0.65mm
pins: 1 VOUTA (out), 2 VOUTB (out), 3 VREFH/VREFOUT (io), 4 AVDD (power), 5 VREFL (in), 6 GND (power), 7 VOUTC (out), 8 VOUTD (out), 9 ~{{SYNC}} (in), 10 SCLK (in), 11 DIN (in), 12 IOVDD (power), 13 ~{{RST}} (in), 14 RSTSEL (in), 15 ~{{ENABLE}} (in), 16 LDAC (in)

## DAC8565
designator *  value DAC8565
ki_keywords: 16-bit quad DAC voltage reference; ki_description: 16-bit quad-channel voltage output DAC with 2.5V internal reference; ki_fp_filters: TSSOP*4.4x5mm*P0.65mm*; Footprint: Package_SO:TSSOP-16_4.4x5mm_P0.65mm; Supplier: https://www.ti.com/lit/ds/symlink/dac8565.pdf
footprint TSSOP-16_4.4x5mm_P0.65mm
pins: 1 VOUTA (out), 2 VOUTB (out), 3 VREFH/VREFOUT (io), 4 AVDD (power), 5 VREFL (in), 6 GND (power), 7 VOUTC (out), 8 VOUTD (out), 9 ~{{SYNC}} (in), 10 SCLK (in), 11 DIN (in), 12 IOVDD (power), 13 ~{{RST}} (in), 14 RSTSEL (in), 15 ~{{ENABLE}} (in), 16 LDAC (in)

## DAC8750xRHA
designator *  value DAC8750xRHA
ki_keywords: DAC Current Loop 20mA; ki_description: Single-Channel, 16bit Programmable Current Output DAC for 4-mA to 20-mA Current Loop Applications, VQFN-40; ki_fp_filters: Texas*PVQFN*; Footprint: Package_DFN_QFN:Texas_S-PVQFN-N40_EP4.6x4.6mm_ThermalVias; Supplier: http://www.ti.com/lit/ds/symlink/dac7750.pdf
footprint Texas_S-PVQFN-N40_EP4.6x4.6mm_ThermalVias
pins: 1 NC (in) hidden, 2 ~{{ALARM}} (oc), 3 GND hidden, 4 GND (power), 5 CLR (in), 6 LATCH (in), 7 SCLK (in), 8 DIN (in), 9 SDO (out), 10 NC (in) hidden, 11 NC (in) hidden, 12 GND hidden, 13 GND hidden, 14 GND hidden, 15 GND hidden, 16 ISET-R, 17 REFOUT (out), 18 REFIN (in), 19 NC (in) hidden, 20 NC (in) hidden, 21 NC (in) hidden, 22 NC (in) hidden, 23 DVDD-EN (in), 24 HART-IN (in), 25 R3-SENSE (out), 26 IOUT (out), 27 BOOST (out), 28 CAP1, 29 CAP2, 30 NC (in) hidden, 31 NC (in) hidden, 32 NC (in) hidden, 33 NC (in) hidden, 34 NC (in) hidden, 35 NC (in) hidden, 36 AVDD (power), 37 GND hidden, 38 NC (in) hidden, 39 DVDD (power), 40 NC (in) hidden, 41 GND hidden

## LTC1257
designator *  value LTC1257
ki_keywords: DAC 12-bit; ki_description: Single Supply 12-bit DAC with Internal Reference Voltage, SOIC-8; ki_fp_filters: SOIC*; Supplier: https://www.analog.com/media/en/technical-documentation/data-sheets/1257fc.pdf
pins: 1 CKL (in), 2 DIN (in), 3 ~{{LOAD}} (in), 4 DOUT (out), 5 GND (power), 6 VREF (io), 7 VOUT (out), 8 VCC (power)

## LTC1446
designator *  value LTC1446
ki_keywords: 12-Bit DAC SPI Reference 2ch; ki_description: 2-Channel 12-Bit Rail-To-Rail D/A Converters with SPI Interface and Internal Reference (4.096V); ki_fp_filters: DIP*W7.62mm* SOIC*3.9x4.9mm*P1.27mm*; Supplier: https://www.analog.com/media/en/technical-documentation/data-sheets/1446fa.pdf
pins: 1 SCK (in), 2 SDI (in), 3 ~{{CS}/LD} (in), 4 SDO (out), 5 VA (out), 6 GND (power), 7 VCC (power), 8 VB (out)
text: DAC; CNTRL

## LTC1446L
designator *  value LTC1446L
ki_keywords: 12-Bit DAC SPI 2ch; ki_description: 2-Channel 12-Bit Rail-To-Rail D/A Converters with SPI Interface and Internal Reference (2.500V); ki_fp_filters: DIP*W7.62mm* SOIC*3.9x4.9mm*P1.27mm*; Supplier: https://www.analog.com/media/en/technical-documentation/data-sheets/1446fa.pdf
pins: 1 SCK (in), 2 SDI (in), 3 ~{{CS}/LD} (in), 4 SDO (out), 5 VA (out), 6 GND (power), 7 VCC (power), 8 VB (out)
text: DAC; CNTRL

## LTC1664CGN
designator *  value LTC1664CGN
ki_keywords: Quad DAC Micropower 10bit 4ch; ki_description: Quad Micropower 10-bit DAC, Standard, SSOP-16; ki_fp_filters: *SSOP*; Supplier: https://www.analog.com/media/en/technical-documentation/data-sheets/1664fa.pdf
pins: 1 GND (power), 2 OUTA (out), 3 OUTB (out), 4 OUTC (out), 5 OUTD (out), 6 REF (in), 7 ~{{CS}/LD} (in), 8 SCK (in), 9 DIN (in), 10 DOUT (out), 11 ~{{CLR}} (in), 12 NC (in) hidden, 13 NC (in) hidden, 14 NC (in) hidden, 15 NC (in) hidden, 16 VCC (power)

## LTC1664CN
designator *  value LTC1664CN
ki_keywords: Quad DAC Micropower 10bit 4ch; ki_description: Quad Micropower 10-bit DAC, Standard, DIP-16; ki_fp_filters: *SSOP*; Supplier: https://www.analog.com/media/en/technical-documentation/data-sheets/1664fa.pdf
pins: 1 GND (power), 2 OUTA (out), 3 OUTB (out), 4 OUTC (out), 5 OUTD (out), 6 REF (in), 7 ~{{CS}/LD} (in), 8 SCK (in), 9 DIN (in), 10 DOUT (out), 11 ~{{CLR}} (in), 12 NC (in) hidden, 13 NC (in) hidden, 14 NC (in) hidden, 15 NC (in) hidden, 16 VCC (power)

## LTC1664IGN
designator *  value LTC1664IGN
ki_keywords: Quad DAC Micropower 10bit 4ch; ki_description: Quad Micropower 10-bit DAC, Industrial, SSOP-16; ki_fp_filters: *SSOP*; Supplier: https://www.analog.com/media/en/technical-documentation/data-sheets/1664fa.pdf
pins: 1 GND (power), 2 OUTA (out), 3 OUTB (out), 4 OUTC (out), 5 OUTD (out), 6 REF (in), 7 ~{{CS}/LD} (in), 8 SCK (in), 9 DIN (in), 10 DOUT (out), 11 ~{{CLR}} (in), 12 NC (in) hidden, 13 NC (in) hidden, 14 NC (in) hidden, 15 NC (in) hidden, 16 VCC (power)

## LTC1664IN
designator *  value LTC1664IN
ki_keywords: Quad DAC Micropower 10bit 4ch; ki_description: Quad Micropower 10-bit DAC, Industrial, DIP-16; ki_fp_filters: *SSOP*; Supplier: https://www.analog.com/media/en/technical-documentation/data-sheets/1664fa.pdf
pins: 1 GND (power), 2 OUTA (out), 3 OUTB (out), 4 OUTC (out), 5 OUTD (out), 6 REF (in), 7 ~{{CS}/LD} (in), 8 SCK (in), 9 DIN (in), 10 DOUT (out), 11 ~{{CLR}} (in), 12 NC (in) hidden, 13 NC (in) hidden, 14 NC (in) hidden, 15 NC (in) hidden, 16 VCC (power)